# EAGLE library part 535512-08_S (library con-tyco-modu)
RECEPTACAL
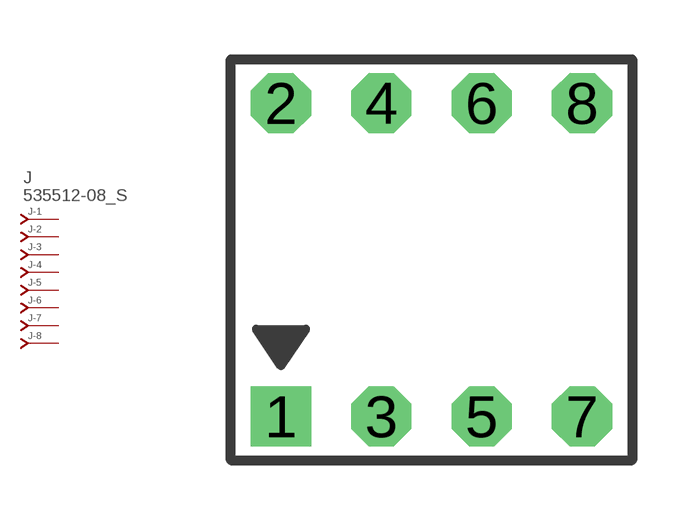
[diagram p14: symbol with the pads of 535512-08; footprint 535512-08]

Designator prefix J; gates -1=J-NV -2=J-N -3=J-N -4=J-N -5=J-N -6=J-N -7=J-N -8=J-N

## 535512-08_S  [535512-08]
1  -1:J  pas
2  -2:J  pas
3  -3:J  pas
4  -4:J  pas
5  -5:J  pas
6  -6:J  pas
7  -7:J  pas
8  -8:J  pas

## Footprint 535512-08 (pad centres in mm)
AMPMODU - 535512 Series
drill 1.016 square: 1 -3.81,0
drill 1.016 octagon: 2 -3.81,7.938; 3 -1.27,0; 4 -1.27,7.938; 5 1.27,0; 6 1.27,7.938; 7 3.81,0; 8 3.81,7.938